# EAGLE library part STX-4235-3/5-N (library con-kycon)
STEREO JACK 3.5MM, STACKED, 3P/5
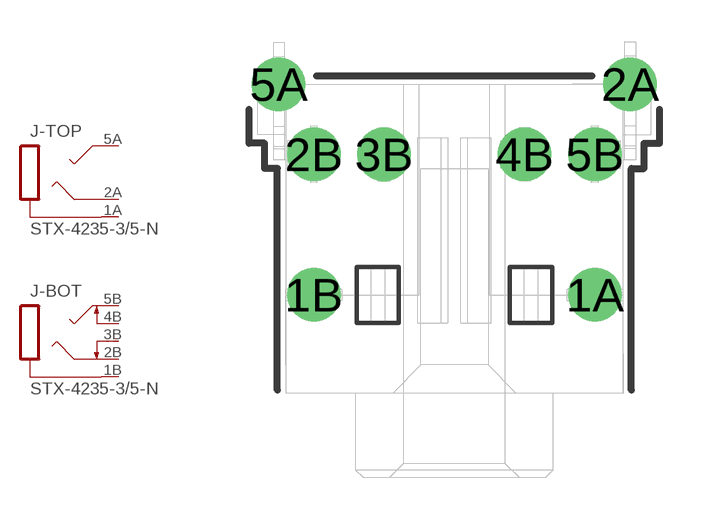
[diagram p1: symbol with the pads of STX-4235-3/5-N; footprint STX-4235-3/5-N]

Designator prefix J; gates -TOP=STX-4235-5-UPPER -BOT=STX-4235-5-LOWER

## STX-4235-3/5-N  [STX-4235-3/5-N]
1A  -TOP:1A  pas
1B  -BOT:1B  pas
2A  -TOP:2A  pas
2B  -BOT:2B  pas
3B  -BOT:3B  pas
4B  -BOT:4B  pas
5A  -TOP:5A  pas
5B  -BOT:5B  pas

## Footprint STX-4235-3/5-N (pad centres in mm)
STEREO JACK 3.5MM, STACKED, 3P/5
drill 1.27: 1A 5,3.5; 1B -5,3.5; 2A 6.25,11; 2B -5,8.5; 3B -2.5,8.5; 4B 2.5,8.5; 5A -6.25,11; 5B 5,8.5